# Altium footprint library PcbLib1.PcbLib: 15 footprints
Each footprint in its own frame and in the unit in brackets; x right, y up, seen from the top. Pads: shape width x height; smd on the part's side, far side on the other; paste and mask are expansions set on the pad; w line width, h text height; cw(c..) or ccw(c..) is an arc to the next point about the centre after c.
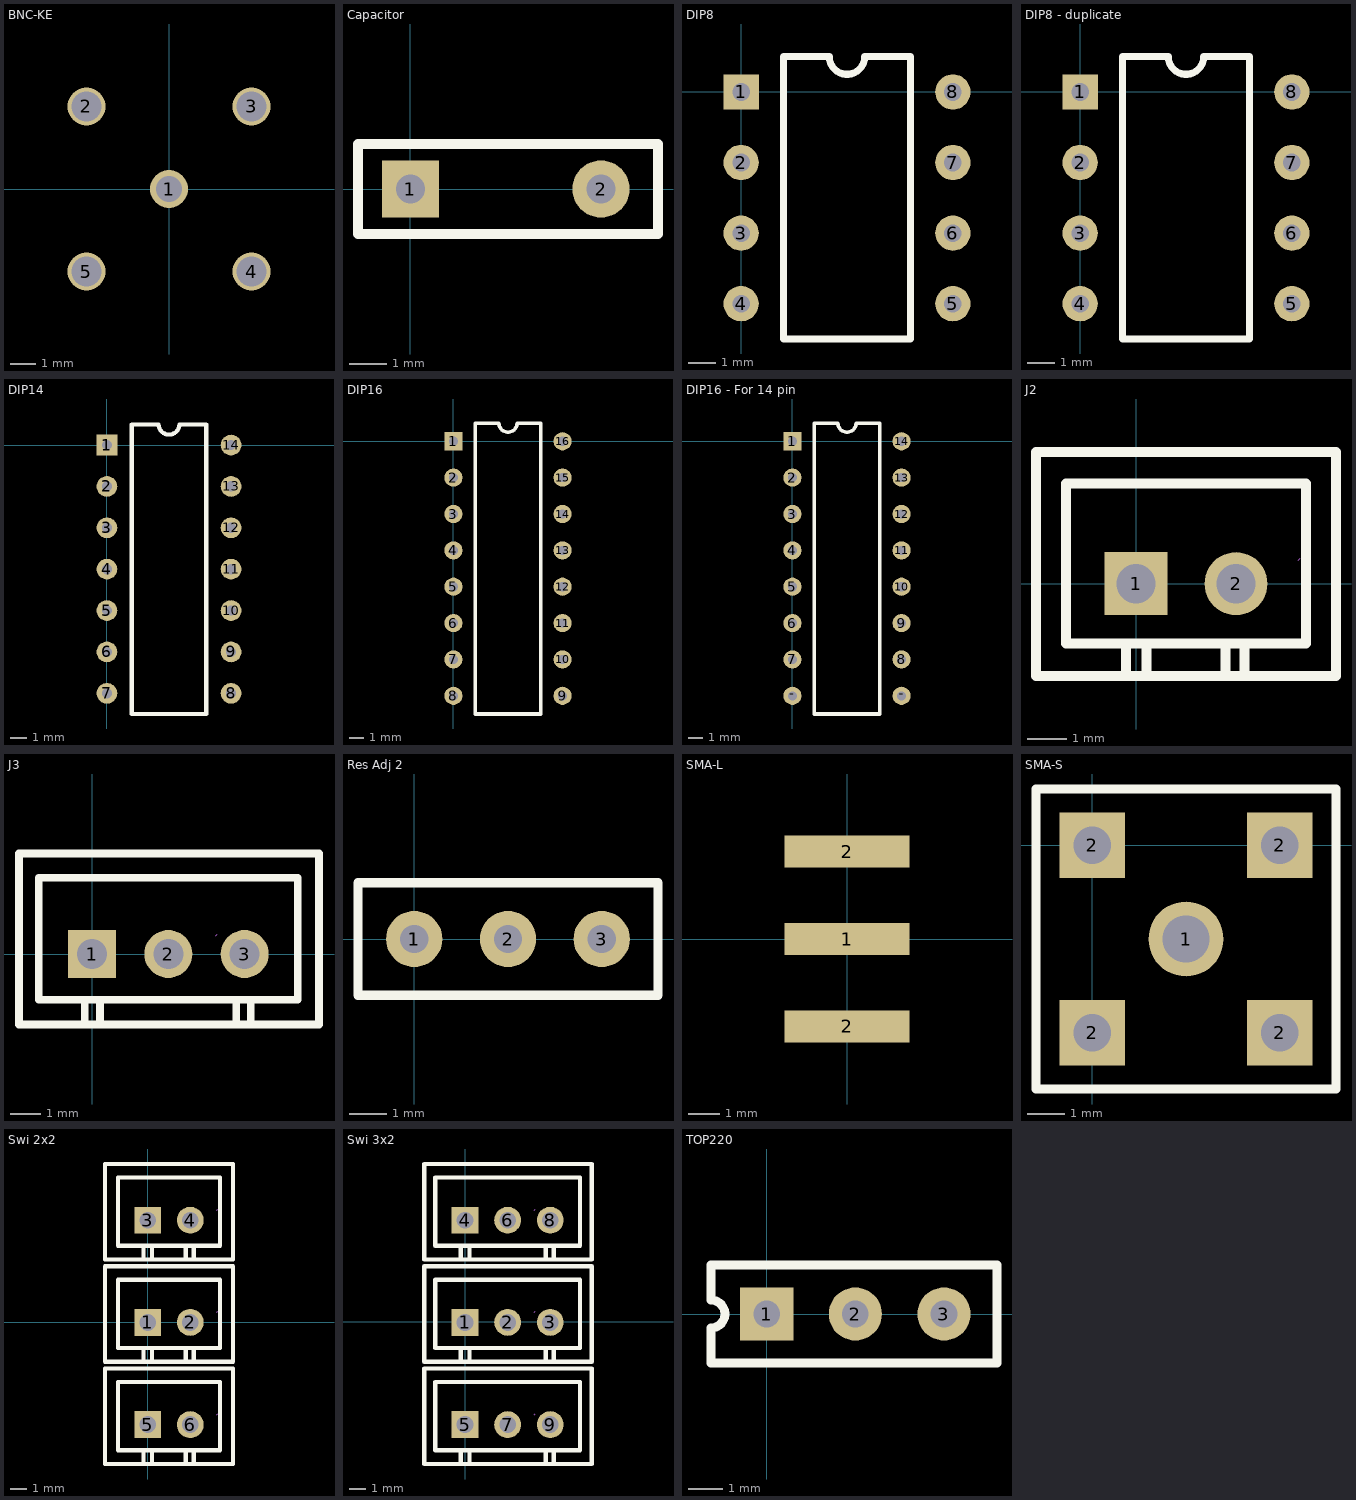
[diagram p0: the footprints below, top view; thin cyan lines are the x and y axes]

## BNC-KE [mm]
pads (5):
  round 1.524 hole 1.05: 1(0,0)
  round 1.524 hole 1.2: 2(-3.3,3.3) 3(3.3,3.3) 4(3.3,-3.3) 5(-3.3,-3.3)
Drill Drawing:
  circle w0.254: c0,0 r6

## Capacitor [mil]
pads (2):
  rect 60x60 hole 30: 1(0,0)
  round 60 hole 30: 2(200,0)
Top Overlay:
  lines w10: -55.12,-47.24 -55.12,47.24 259.84,47.24 259.84,-47.24 -55.12,-47.24

## DIP8 [mil]
pads (8):
  rect 50x50 hole 25: 1(0,0)
  round 50 hole 25: 2(0,-100) 3(0,-200) 4(0,-300) 5(300,-300) 6(300,-200) 7(300,-100) 8(300,0)
Top Overlay:
  lines w10: 60,-350 240,-350 240,50 175,50 cw(c150,50) 125,50 60,50 60,-350

## DIP8 - duplicate [mil]
pads (8):
  rect 50x50 hole 25: 1(0,0)
  round 50 hole 25: 2(0,-100) 3(0,-200) 4(0,-300) 5(300,-300) 6(300,-200) 7(300,-100) 8(300,0)
Top Overlay:
  lines w10: 60,-350 240,-350 240,50 175,50 cw(c150,50) 125,50 60,50 60,-350

## DIP14 [mil]
pads (14):
  rect 50x50 hole 25: 1(0,0)
  round 50 hole 25: 2(0,-100) 3(0,-200) 4(0,-300) 5(0,-400) 6(0,-500) 7(0,-600) 8(300,-600) 9(300,-500) 10(300,-400) 11(300,-300) 12(300,-200) 13(300,-100) 14(300,0)
Top Overlay:
  lines w10: 60,-650 240,-650 240,50 175,50 cw(c150,50) 125,50 60,50 60,-650

## DIP16 [mil]
pads (16):
  rect 50x50 hole 25: 1(0,0)
  round 50 hole 25: 2(0,-100) 3(0,-200) 4(0,-300) 5(0,-400) 6(0,-500) 7(0,-600) 8(0,-700) 9(300,-700) 10(300,-600) 11(300,-500) 12(300,-400) 13(300,-300) 14(300,-200) 15(300,-100) 16(300,0)
Top Overlay:
  lines w10: 60,-750 240,-750 240,50 175,50 cw(c150,50) 125,50 60,50 60,-750

## DIP16 - For 14 pin [mil]
pads (16):
  rect 50x50 hole 25: 1(0,0)
  round 50 hole 25: 2(0,-100) 3(0,-200) 4(0,-300) 5(0,-400) 6(0,-500) 7(0,-600) 8(300,-600) 9(300,-500) 10(300,-400) 11(300,-300) 12(300,-200) 13(300,-100) 14(300,0) -(0,-700) -(300,-700)
Top Overlay:
  lines w10: 60,-750 60,50 125,50 ccw(c150,50) 175,50 240,50 240,-750 60,-750

## J2 [mm] "J1-3"
pads (2):
  rect 1.6x1.6 hole 1: 1(0,0)
  round 1.6 hole 1: 2(2.54,0)
Top Overlay:
  lines w0.254: -0.254,-2.35 -0.254,-1.524 ; 0.261,-2.35 0.261,-1.524 ; 2.268,-2.35 2.268,-1.524 ; 2.751,-2.35 2.751,-1.524 ; -2.54,-2.35 -2.54,3.35 5.08,3.35 5.08,-2.35 -2.54,-2.35 ; -1.778,-1.524 4.318,-1.524 4.318,2.54 -1.778,2.54 -1.778,-1.524
Mechanical 15:
  lines w0.003: 4.122,0.602 4.173,0.653

## J3 [mm] "+-G"
pads (3):
  rect 1.6x1.6 hole 1: 1(0,0)
  round 1.6 hole 1: 2(2.54,0) 3(5.08,0)
Top Overlay:
  lines w0.254: -0.254,-2.35 -0.254,-1.524 ; 0.261,-2.35 0.261,-1.524 ; 4.808,-2.35 4.808,-1.524 ; 5.291,-2.35 5.291,-1.524 ; -2.44,-2.35 -2.44,3.35 7.56,3.35 7.56,-2.35 -2.44,-2.35 ; -1.778,-1.524 6.858,-1.524 6.858,2.54 -1.778,2.54 -1.778,-1.524
Mechanical 15:
  lines w0.003: 4.122,0.602 4.173,0.653

## Res Adj 2 [mil]
pads (4):
  round 60 hole 30: 1(0,0) 1(0,0) 2(100,0) 3(200,0)
Top Overlay:
  lines w10: -60,-60 -60,60 260,60 260,-60 -60,-60

## SMA-L [mm]
pads (3):
  rect 4x1.016 smd: 1(0,0) 2(0,-2.8) 2(0,2.8)

## SMA-S [mil]
pads (5):
  round 80 hole 50: 1(100,-100)
  rect 70x70 hole 40 square: 2(0,-200) 2(0,0) 2(200,-200) 2(200,0)
Top Overlay:
  lines w10: -60,-260 260,-260 260,60 -60,60 -60,-260

## Swi 2x2 [mm]
pads (6):
  rect 1.6x1.6 hole 1: 1(0,0) 3(0,6.096) 5(0,-6.096)
  round 1.6 hole 1: 2(2.54,0) 4(2.54,6.096) 6(2.54,-6.096)
Top Overlay:
  lines w0.254: -0.254,-8.446 -0.254,-7.62 ; -0.254,-2.35 -0.254,-1.524 ; -0.254,3.746 -0.254,4.572 ; 0.261,-8.446 0.261,-7.62 ; 0.261,-2.35 0.261,-1.524 ; 0.261,3.746 0.261,4.572 ; 2.268,-8.446 2.268,-7.62 ; 2.268,-2.35 2.268,-1.524 ; 2.268,3.746 2.268,4.572 ; 2.751,-8.446 2.751,-7.62 ; 2.751,-2.35 2.751,-1.524 ; 2.751,3.746 2.751,4.572 ; -2.54,-8.446 -2.54,-2.746 5.08,-2.746 5.08,-8.446 -2.54,-8.446 ; -2.54,-2.35 -2.54,3.35 5.08,3.35 5.08,-2.35 -2.54,-2.35 ; -2.54,3.746 -2.54,9.446 5.08,9.446 5.08,3.746 -2.54,3.746 ; -1.778,-7.62 4.318,-7.62 4.318,-3.556 -1.778,-3.556 -1.778,-7.62 ; -1.778,-1.524 4.318,-1.524 4.318,2.54 -1.778,2.54 -1.778,-1.524 ; -1.778,4.572 4.318,4.572 4.318,8.636 -1.778,8.636 -1.778,4.572
Mechanical 15:
  lines w0.003: 4.122,-5.494 4.173,-5.443 ; 4.122,0.602 4.173,0.653 ; 4.122,6.698 4.173,6.749

## Swi 3x2 [mm]
pads (9):
  rect 1.6x1.6 hole 1: 1(-0.02,-0.048) 4(-0.02,6.048) 5(-0.02,-6.144)
  round 1.6 hole 1: 2(2.52,-0.048) 3(5.06,-0.048) 6(2.52,6.048) 7(2.52,-6.144) 8(5.06,6.048) 9(5.06,-6.144)
Top Overlay:
  lines w0.254: -0.274,-8.494 -0.274,-7.668 ; -0.274,-2.398 -0.274,-1.572 ; -0.274,3.698 -0.274,4.524 ; 0.241,-8.494 0.241,-7.668 ; 0.241,-2.398 0.241,-1.572 ; 0.241,3.698 0.241,4.524 ; 4.788,-8.494 4.788,-7.668 ; 4.788,-2.398 4.788,-1.572 ; 4.788,3.698 4.788,4.524 ; 5.271,-8.494 5.271,-7.668 ; 5.271,-2.398 5.271,-1.572 ; 5.271,3.698 5.271,4.524 ; -2.46,-8.494 -2.46,-2.794 7.54,-2.794 7.54,-8.494 -2.46,-8.494 ; -2.46,-2.398 -2.46,3.302 7.54,3.302 7.54,-2.398 -2.46,-2.398 ; -2.46,3.698 -2.46,9.398 7.54,9.398 7.54,3.698 -2.46,3.698 ; -1.798,-7.668 6.838,-7.668 6.838,-3.604 -1.798,-3.604 -1.798,-7.668 ; -1.798,-1.572 6.838,-1.572 6.838,2.492 -1.798,2.492 -1.798,-1.572 ; -1.798,4.524 6.838,4.524 6.838,8.588 -1.798,8.588 -1.798,4.524
Mechanical 15:
  lines w0.003: 4.102,-5.542 4.153,-5.491 ; 4.102,0.554 4.153,0.605 ; 4.102,6.65 4.153,6.701

## TOP220 [mil]
pads (3):
  rect 60x60 hole 30: 1(0,0)
  round 60 hole 30: 2(100,0) 3(200,0)
Top Overlay:
  lines w10: -62.99,-55.12 -62.99,-27.28 -62.99,-15.75 ccw(c-62.99,0) -62.99,15.75 -62.99,26.19 -62.99,55.12 259.84,55.12 259.84,-55.12 -62.99,-55.12